# EAGLE library part 87833-0820 (library Neel)
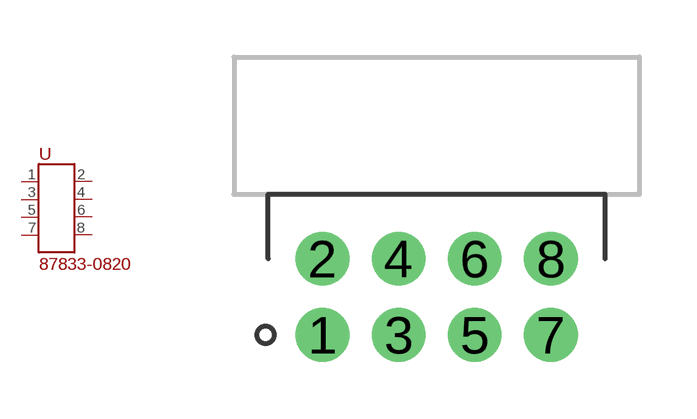
[diagram p66: symbol with the pads of 2X4-2MM; footprint 2X4-2MM]

Designator prefix -

## 87833-0820  [2X4-2MM]
1  P$1
2  P$2
3  P$3
4  P$4
5  P$5
6  P$6
7  P$7
8  P$8

## Footprint 2X4-2MM (pad centres in mm)
drill 0.9 pad 1.27: 1 -3.38,-1; 2 -3.38,1; 3 -1.38,-1; 4 -1.38,1; 5 0.62,-1; 6 0.62,1; 7 2.62,-1; 8 2.62,1